# Altium schematic symbol library SchlibPower.SchLib: 8 symbols
Pins are listed as number, name and electrical type; pins without a type are passive.

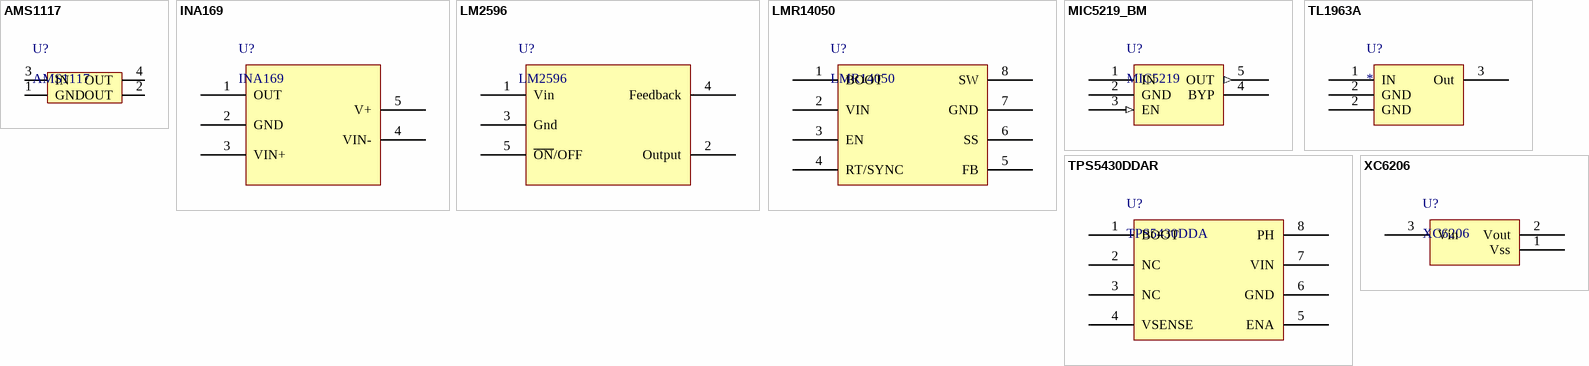
[diagram p0: symbols AMS1117 to XC6206]

## AMS1117
designator U?
footprint AMS1117
pins: 1 GND, 2 OUT, 3 IN, 4 OUT

## INA169
designator U?
footprint SOT23-5
pins: 1 OUT, 2 GND (power), 3 VIN+, 4 VIN-, 5 V+ (power)

## LM2596
designator U?
footprint TO-263-5
pins: 1 Vin, 2 Output, 3 Gnd (power), 4 Feedback, 5 ~{ON}/OFF

## LMR14050
designator U?
footprint TPS5430DDAR
pins: 1 BOOT, 2 VIN (power), 3 EN, 4 RT/SYNC, 5 FB, 6 SS, 7 GND (power), 8 SW (power)

## MIC5219_BM
designator U?, comment MIC5219
footprint SOT23-5
pins: 1 IN (power), 2 GND (power), 3 EN (in), 4 BYP, 5 OUT (out)

## TL1963A
designator U?
footprint AMS1117; pin to pad 2>4
pins: 1 IN (power), 2 GND (power), 2 GND (power), 3 Out (power)

## TPS5430DDAR
designator U?, comment TPS5430DDA
footprint TPS5430DDAR
pins: 1 BOOT, 2 NC, 3 NC, 4 VSENSE, 5 ENA, 6 GND (power), 7 VIN (power), 8 PH (power)

## XC6206
designator U?
footprint SOT23
pins: 1 Vss (power), 2 Vout (power), 3 Vin (power)